# Altium schematic symbol library SCH - DRIVER - LED - TI LP3943ISQ.SchLib: 1 symbol
Pins are listed as number, name and electrical type; pins without a type are passive.

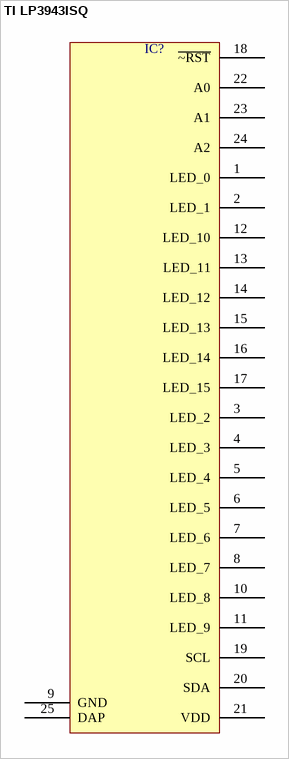
[diagram p0: symbol TI LP3943ISQ]

## TI LP3943ISQ
designator IC?  (value not drawn)
pins: 1 LED_0, 2 LED_1, 3 LED_2, 4 LED_3, 5 LED_4, 6 LED_5, 7 LED_6, 8 LED_7, 9 GND, 10 LED_8, 11 LED_9, 12 LED_10, 13 LED_11, 14 LED_12, 15 LED_13, 16 LED_14, 17 LED_15, 18 ~{~RST}, 19 SCL, 20 SDA, 21 VDD, 22 A0, 23 A1, 24 A2, 25 DAP